# Altium schematic symbol library Recom R78E-1.0.SchLib: 1 symbol
Pins are listed as number, name and electrical type; pins without a type are passive.

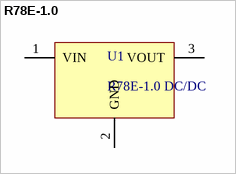
[diagram p0: symbol R78E-1.0]

## R78E-1.0
designator U1, comment R78E-1.0 DC/DC
footprint R78-1.0
pins: 1 VIN, 2 GND, 3 VOUT